# Altium schematic symbol library AddrLED_COM-16347.SchLib: 1 symbol
Pins are listed as number, name and electrical type; pins without a type are passive.

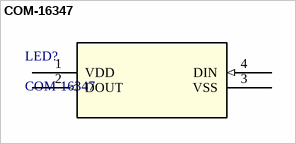
[diagram p0: symbol COM-16347]

## COM-16347
designator LED?
Description; Manufacturer_Name: Sparkfun; Type: LED Addressable; Copyright: Copyright (C) 2026 Ultra Librarian. All rights reserved.; Manufacturer_Part_Number: COM-16347; RefDes: RefDes
footprint COM-16347_SPK
pins: 1 VDD (power), 2 DOUT (out), 3 VSS (power), 4 DIN (in)